# EAGLE library part 302-R241 (library OS302-R241)
Conn Socket Strip SKT 24 POS 2.54mm Solder RA Thru-Hole
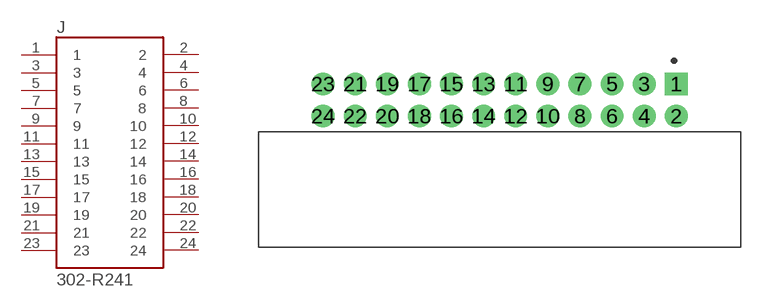
[diagram p0: symbol with the pads of OST_302-R241; footprint OST_302-R241]

Designator prefix J

## 302-R241 (Availability: Unavailable; Description: Conn Socket Strip SKT 24 POS 2.54mm Solder RA Thru-Hole; MF: On Shore; MP: 302-R241; Package: None; Price: None)  [OST_302-R241]
1  1  pas
2  2  pas
3  3  pas
4  4  pas
5  5  pas
6  6  pas
7  7  pas
8  8  pas
9  9  pas
10  10  pas
11  11  pas
12  12  pas
13  13  pas
14  14  pas
15  15  pas
16  16  pas
17  17  pas
18  18  pas
19  19  pas
20  20  pas
21  21  pas
22  22  pas
23  23  pas
24  24  pas

## Footprint OST_302-R241 (pad centres in mm)
drill 1.2 square: 1 13.97,1.27
drill 1.2: 2 13.97,-1.27; 3 11.43,1.27; 4 11.43,-1.27; 5 8.89,1.27; 6 8.89,-1.27; 7 6.35,1.27; 8 6.35,-1.27; 9 3.81,1.27; 10 3.81,-1.27; 11 1.27,1.27; 12 1.27,-1.27; 13 -1.27,1.27; 14 -1.27,-1.27; 15 -3.81,1.27; 16 -3.81,-1.27; 17 -6.35,1.27; 18 -6.35,-1.27; 19 -8.89,1.27; 20 -8.89,-1.27; 21 -11.43,1.27; 22 -11.43,-1.27; 23 -13.97,1.27; 24 -13.97,-1.27